# EAGLE library part LP55231 (library SparkFun-IC-Special-Function)
LP55231 Programmable 9-Output LED Driver Datasheet <http://www.ti.com/lit/ds/symlink/lp55231.pdf> SparkFun Products: SparkFun LED Driver Breakout - LP55231 <https://www.sparkfun.com/products/13884>
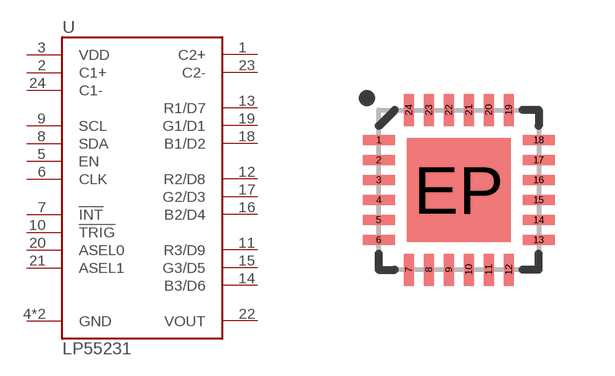
[diagram p14: symbol with the pads of WQFN-24; footprint WQFN-24]

Designator prefix U

## LP55231WQFN (PROD_ID: IC-13302)  [WQFN-24]
1  C2+
2  C1+
3  VDD
4  GND
5  EN
6  CLK
7  !INT
8  SDA
9  SCL
10  !TRIG
11  R3/D9
12  R2/D8
13  R1/D7
14  B3/D6
15  G3/D5
16  B2/D4
17  G2/D3
18  B1/D2
19  G1/D1
20  ASEL0
21  ASEL1
22  VOUT
23  C2-
24  C1-
EP  GND

## Footprint WQFN-24 (pad centres in mm)
WQFN - 24 Pin Specifications: Pin count: 24 Datasheet referenced for footprint <http://www.ti.com/lit/ds/symlink/lp55231.pdf> Example device(s): LP55231
smd 0.8 x 0.25: 1 -2,1.25; 2 -2,0.75; 3 -2,0.25; 4 -2,-0.25; 5 -2,-0.75; 6 -2,-1.25; 13 2,-1.25; 14 2,-0.75; 15 2,-0.25; 16 2,0.25; 17 2,0.75; 18 2,1.25
smd 0.25 x 0.8: 7 -1.25,-2; 8 -0.75,-2; 9 -0.25,-2; 10 0.25,-2; 11 0.75,-2; 12 1.25,-2; 19 1.25,2; 20 0.75,2; 21 0.25,2; 22 -0.25,2; 23 -0.75,2; 24 -1.25,2
smd 2.6 x 2.6: EP 0,0